# Altium footprint library QUTMS_SwitchLibrary.PcbLib: 1 footprints
Each footprint in its own frame and in the unit in brackets; x right, y up, seen from the top. Pads: shape width x height; smd on the part's side, far side on the other; paste and mask are expansions set on the pad; w line width, h text height; cw(c..) or ccw(c..) is an arc to the next point about the centre after c.
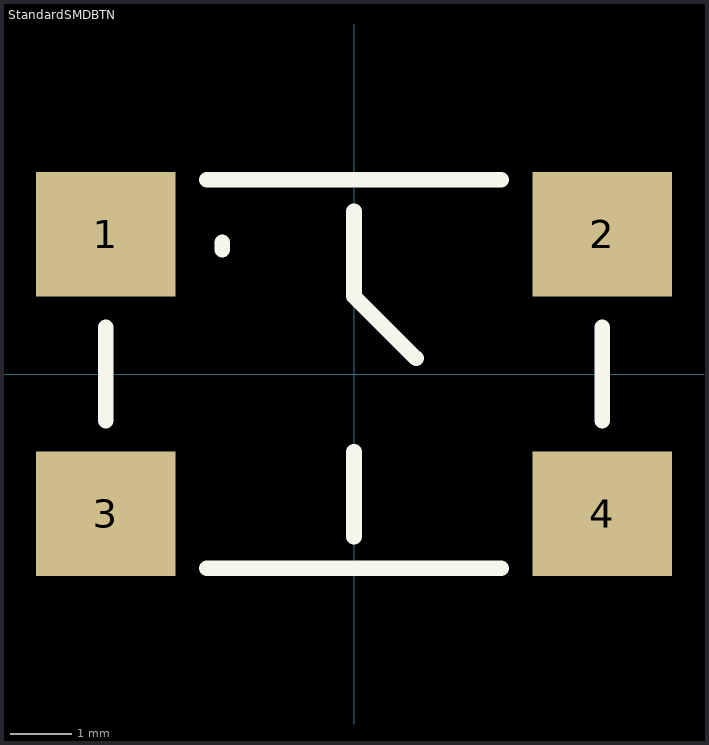
[diagram p0: the footprint, top view; thin cyan lines are the x and y axes]

## StandardSMDBTN [mil] "https://lcsc.com/product-detail/Tactile-Switches_BRIGHT-TSA063G50-250_C294565.html"
pads (4):
  rect 90x80 smd: 1(-160,90) 2(160,90) 3(-160,-90) 4(160,-90)
Top Overlay:
  lines w10: -160,-30 -160,30 ; -95,-125 95,-125 ; -95,125 95,125 ; -85,80 -85,85 ; 0,-105 0,-50 ; 0,105 0,50 40,10 ; 160,-30 160,30
3D body: height 135, standoff 5, extent -120,-120 120,120
3D body: height 205, standoff 5, extent -65,-64.87 65,64.87